# Altium footprint library Components - 08.09.24 - 21.55.PcbLib: 1 footprints
Each footprint in its own frame and in the unit in brackets; x right, y up, seen from the top. Pads: shape width x height; smd on the part's side, far side on the other; paste and mask are expansions set on the pad; w line width, h text height; cw(c..) or ccw(c..) is an arc to the next point about the centre after c.
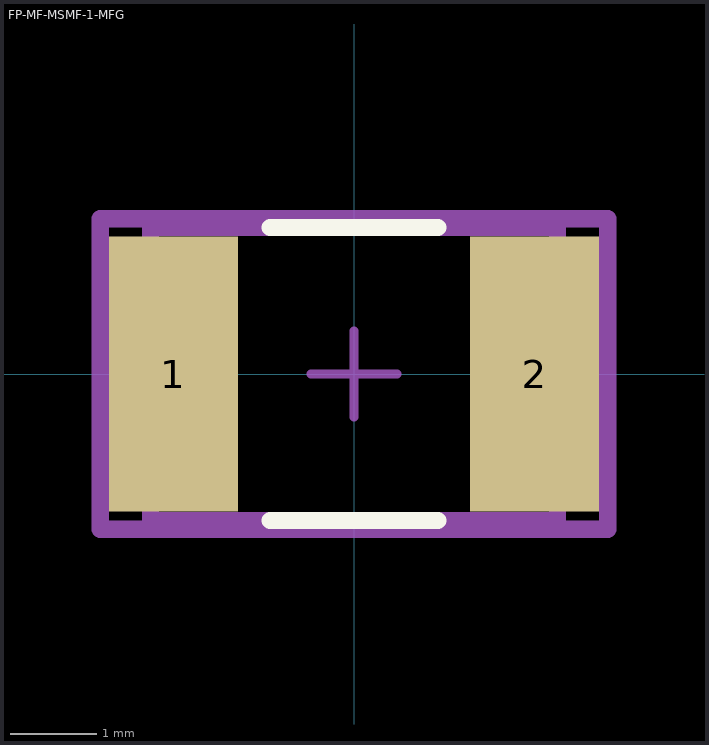
[diagram p0: the footprint, top view; thin cyan lines are the x and y axes]

## FP-MF-MSMF-1-MFG [mm]
pads (2):
  rect 1.5x3.2 smd paste+0 mask+0: 1(-2.1,0) 2(2.1,0)
Top Overlay:
  lines w0.2: -0.975,-1.705 0.975,-1.705 ; -0.975,1.705 0.975,1.705
Mechanical 5:
  lines w0.2: -2.95,-1.805 2.95,-1.805 2.95,1.805 -2.95,1.805 -2.95,-1.805
  text ".Designator" at 0,0.188 h1
Mechanical 13:
  lines w0.2: -2.365,-1.705 2.365,-1.705 2.365,1.705 -2.365,1.705 -2.365,-1.705
Mechanical 15:
  lines w0.2: -2.95,-1.805 2.95,-1.805 2.95,1.805 -2.95,1.805 -2.95,-1.805
Mechanical 16:
  lines w0.1: -0.5,0 0.5,0 ; 0,-0.5 0,0.5
3D body "Fuse_Bourns_MF-MSMF014-2_eec.STEP": height 0.25, standoff 0, extent -2.95,-1.805 2.95,1.805